# Altium footprint library SOT23-STD.PcbLib: 1 footprints
Each footprint in its own frame and in the unit in brackets; x right, y up, seen from the top. Pads: shape width x height; smd on the part's side, far side on the other; paste and mask are expansions set on the pad; w line width, h text height; cw(c..) or ccw(c..) is an arc to the next point about the centre after c.
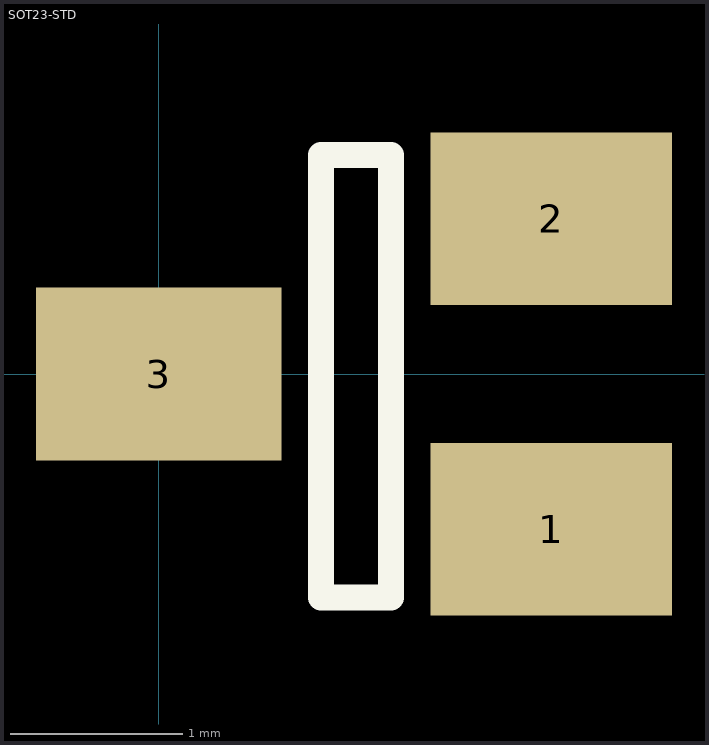
[diagram p0: the footprint, top view; thin cyan lines are the x and y axes]

## SOT23-STD [mm]
pads (3):
  rect 1.4x1 smd: 1(2.275,-0.9) 2(2.275,0.9)
  rect 1.425x1 smd: 3(0,0)
Top Overlay:
  lines w0.15: 0.94,-1.295 0.94,1.27 1.346,1.27 1.346,-1.295 0.94,-1.295
3D body: height 1.08, standoff 0, extent -0.177,-1.5 2.463,1.5